# EAGLE library part 6N138 (library Stepper Synth 2.4)
MOTOROLA OPTO COUPLER
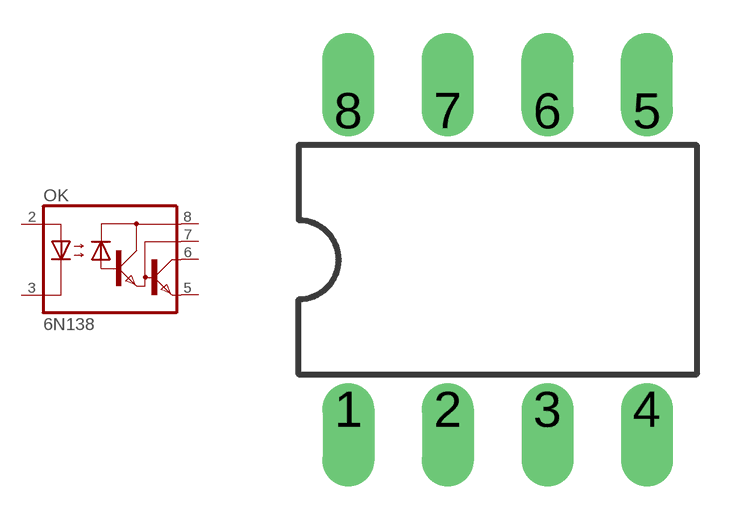
[diagram p2: symbol with the pads of DIP8; footprint DIP8]

Designator prefix OK

## 6N138DIP8  [DIP8]
2  A  pas
3  C  pas
5  GND  pas
6  VO  pas
7  VB  pas
8  VCC  pas

## Footprint DIP8 (pad centres in mm)
8-DIP, 2.54 mm (0.10 in) pitch, 7.62 mm (0.30 in) span, 10.00 X 6.60 X 5.08 mm body 8-pin DIP package with 2.54 mm (0.10 in) pitch, 7.62 mm (0.30 in) span with body size 10.00 X 6.60 X 5.08 mm
drill 0.813 offset: 1 -3.81,-3.81; 2 -1.27,-3.81; 3 1.27,-3.81; 4 3.81,-3.81; 5 3.81,3.81; 6 1.27,3.81; 7 -1.27,3.81; 8 -3.81,3.81